# EAGLE library part LGT8F328P (library LGT8F328P)
Check availability <https://pricing.snapeda.com/parts/LGT8F328P/Arduino/view-part?ref=eda>
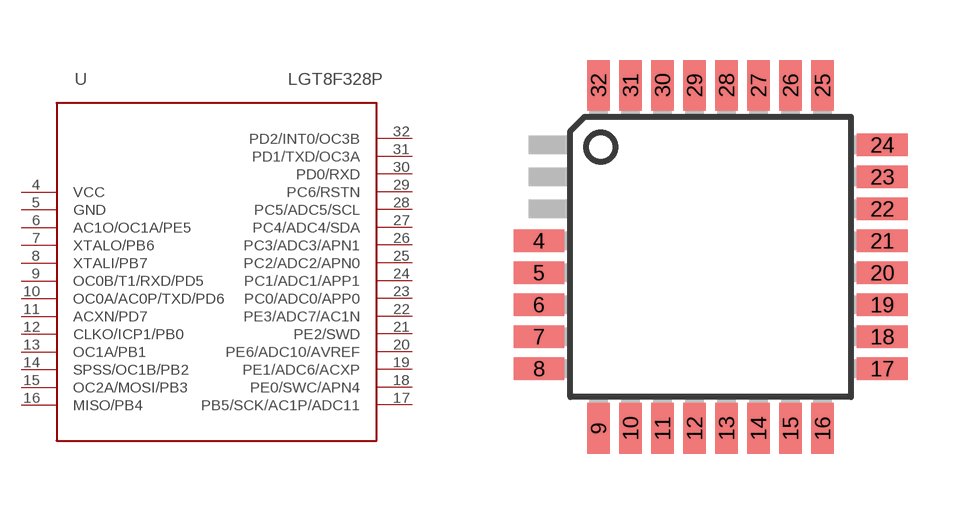
[diagram p0: symbol with the pads of TQFP32-08; footprint TQFP32-08]

Designator prefix U

## LGT8F328P (AVAILABILITY: Not in stock; CHECK_PRICES: https://www.snapeda.com/parts/LGT8F328P/Arduino/view-part/?ref=eda; MF: Arduino; MP: LGT8F328P; PACKAGE: Package; PRICE: None; SNAPEDA_LINK: https://www.snapeda.com/parts/LGT8F328P/Arduino/view-part/?ref=snap)  [TQFP32-08]
4  VCC  pwr
5  GND  pwr
6  AC1O/OC1A/PE5
7  XTALO/PB6
8  XTALI/PB7
9  OC0B/T1/RXD/PD5
10  OC0A/AC0P/TXD/PD6
11  ACXN/PD7
12  CLKO/ICP1/PB0
13  OC1A/PB1
14  SPSS/OC1B/PB2
15  OC2A/MOSI/PB3
16  MISO/PB4
17  PB5/SCK/AC1P/ADC11
18  PE0/SWC/APN4
19  PE1/ADC6/ACXP
20  PE6/ADC10/AVREF
21  PE2/SWD
22  PE3/ADC7/AC1N
23  PC0/ADC0/APP0
24  PC1/ADC1/APP1
25  PC2/ADC2/APN0
26  PC3/ADC3/APN1
27  PC4/ADC4/SDA
28  PC5/ADC5/SCL
29  PC6/RSTN
30  PD0/RXD
31  PD1/TXD/OC3A
32  PD2/INT0/OC3B

## Footprint TQFP32-08 (pad centres in mm)
Thin Plasic Quad Flat Package Grid 0.8 mm
smd 1.27 x 0.559: 4 -4.293,0.4; 5 -4.293,-0.4; 6 -4.293,-1.2; 7 -4.293,-2; 8 -4.293,-2.8; 17 4.293,-2.8; 18 4.293,-2; 19 4.293,-1.2; 20 4.293,-0.4; 21 4.293,0.4; 22 4.293,1.2; 23 4.293,2; 24 4.293,2.8
smd 0.559 x 1.27: 9 -2.8,-4.293; 10 -2,-4.293; 11 -1.2,-4.293; 12 -0.4,-4.293; 13 0.4,-4.293; 14 1.2,-4.293; 15 2,-4.293; 16 2.8,-4.293; 25 2.8,4.293; 26 2,4.293; 27 1.2,4.293; 28 0.4,4.293; 29 -0.4,4.293; 30 -1.2,4.293; 31 -2,4.293; 32 -2.8,4.293